# EAGLE library part SENSORS (library miniecu-con)
JST XH CONNECTOR JST XH connector for engine sensors
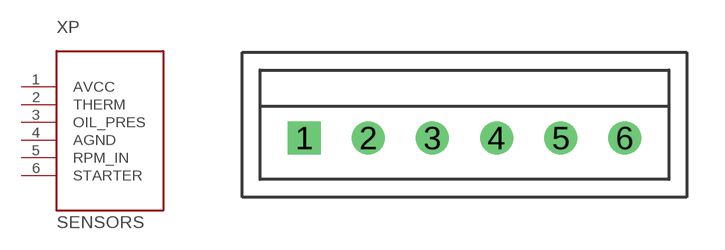
[diagram p0: symbol with the pads of B6B-XH; footprint B6B-XH]

Designator prefix XP

## SENSORS-B6B-XH-A  [B6B-XH]
1  AVCC  pas
2  THERM  pas
3  OIL_PRES  pas
4  AGND  pas
5  RPM_IN  pas
6  STARTER  pas

## Footprint B6B-XH (pad centres in mm)
JST XH Connector JST 2.54mm connector. Folded beam contact, box-shaped shrouded header, header with a boss, interchangeability, conformance to the HA terminal Datasheet: eXH.pdf <http://www.jst-mfg.com/product/pdf/eng/eXH.pdf>
drill 0.8 square: 1 -6.35,0
drill 0.8: 2 -3.81,0; 3 -1.27,0; 4 1.27,0; 5 3.81,0; 6 6.35,0